# Altium footprint library level_switch.PcbLib: 5 footprints
Each footprint in its own frame and in the unit in brackets; x right, y up, seen from the top. Pads: shape width x height; smd on the part's side, far side on the other; paste and mask are expansions set on the pad; w line width, h text height; cw(c..) or ccw(c..) is an arc to the next point about the centre after c.
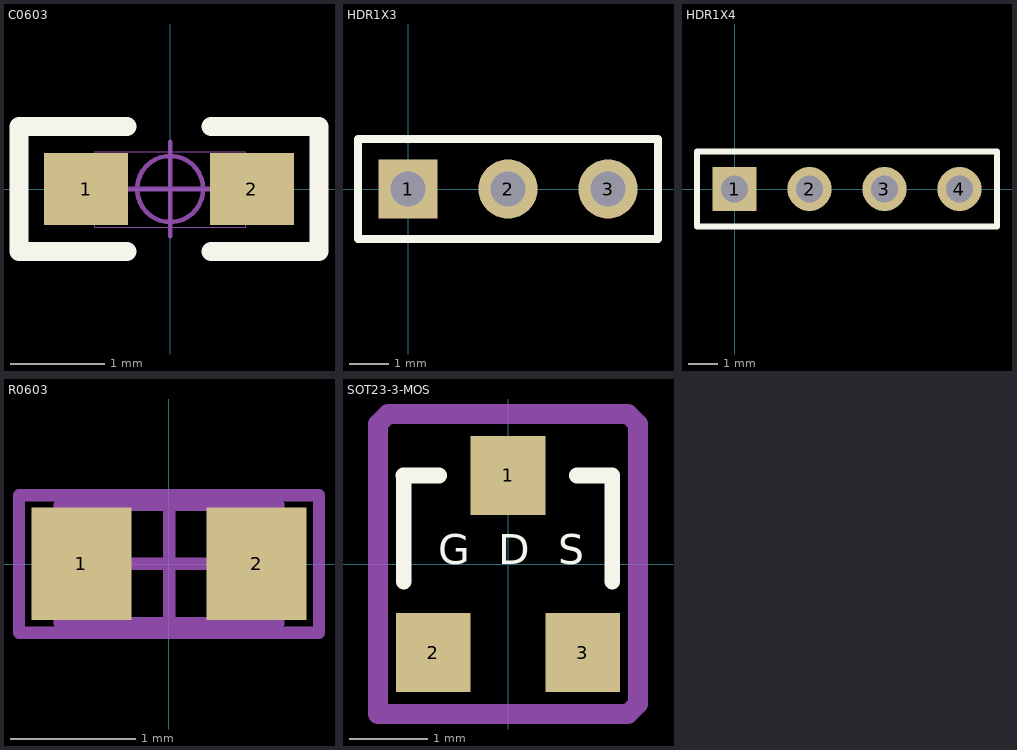
[diagram p0: the footprints below, top view; thin cyan lines are the x and y axes]

## C0603 [mil] "无极性贴片电容"
pads (2):
  rect 35x30 smd: 1(-35,0) 2(34,0)
Top Overlay:
  lines w8: -18,-26 -63,-26 -63,26 -18,26 ; 17,-26 62,-26 62,26 17,26
Mechanical 13:
  lines w0.39: -31.5,-16 -31.5,15.5 31.5,15.5 31.5,-16 -31.5,-16
Mechanical 15:
  circle w1.97: c0,0 r13.78
  lines w1.97: -19.68,0 19.68,0 ; 0,-19.68 0,19.68
3D body "C 0603.STEP": height 31.89, standoff -0.39, extent -31.5,-16.14 31.5,16.14

## HDR1X3 [mm]
pads (3):
  rect 1.5x1.5 hole 0.9: 1(0,0)
  round 1.5 hole 0.9: 2(2.54,0) 3(5.08,0)
Top Overlay:
  lines w0.2: -1.27,-1.27 6.35,-1.27 6.35,1.27 -1.27,1.27 -1.27,-1.27

## HDR1X4 [mm]
pads (4):
  rect 1.5x1.5 hole 0.9: 1(0,0)
  round 1.5 hole 0.9: 2(2.54,0) 3(5.08,0) 4(7.62,0)
Top Overlay:
  lines w0.2: -1.27,-1.27 8.89,-1.27 8.89,1.27 -1.27,1.27 -1.27,-1.27

## R0603 [mm] "Chip Capacitor, Body 1.6x0.8mm, IPC High Density"
height 1.3
pads (2):
  rect 0.8x0.9 smd: 1(-0.7,0) 2(0.7,0)
Mechanical 13:
  lines w0.1: -0.875,-0.475 -0.875,0.475 0.875,0.475 0.875,-0.475 -0.875,-0.475
Mechanical 15:
  lines w0.1: -0.475,0 0.475,0 ; 0,-0.475 0,0.475 ; -1.2,-0.55 -1.2,0.55 1.2,0.55 1.2,-0.55 -1.2,-0.55
3D body: height 1.3, standoff 0, extent -0.875,-0.475 0.875,0.475

## SOT23-3-MOS [mm] "SOT-23; 3 Leads; Body 3.0 x 2.5 mm, inc. leads (LxW max)"
height 1.2
pads (3):
  rect 0.95x1 smd: 1(0,1.125) 2(-0.95,-1.125) 3(0.95,-1.125)
Top Overlay:
  lines w0.2: -1.328,1.125 -0.875,1.125 ; -1.325,-0.225 -1.325,1.125 ; 0.875,1.125 1.325,1.125 1.325,-0.225
  text "D" at -0.127,-0.127 h0.65
  text "S" at 0.635,-0.127 h0.65
  text "G" at -0.889,-0.127 h0.65
Mechanical 15:
  lines w0.254: -1.651,-1.905 1.524,-1.905 1.651,-1.778 1.651,1.778 1.524,1.905 -1.524,1.905 -1.651,1.778 -1.651,-1.651 -1.651,-1.905